# Altium integrated library LIB2022 - Switches.IntLib: 5 symbols
Pins are listed as number, name and electrical type; pins without a type are passive.

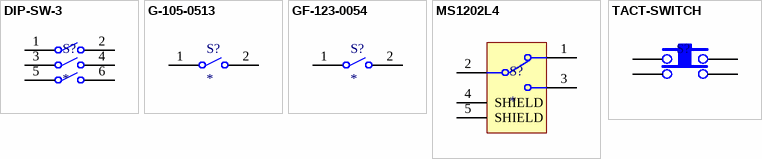
[diagram p0: symbols DIP-SW-3 to TACT-SWITCH]

## DIP-SW-3
designator S?
footprint DIP-SW-3
pins: 1, 2, 3, 4, 5, 6

## G-105-0513
designator S?
Digikey_PN: SW100-ND
footprint G-105-0513
pins: 1, 2

## GF-123-0054
designator S?
SWITCH SLIDE SPST 8.5A 125V; Digikey_PN: CWI333-ND
footprint GF-123-0054
pins: 1, 2

## MS1202L4
designator S?
SWITCH SLIDE SPDT 0.2A 30V; Digikey_PN: 2449-MS1202L4-ND
footprint MS1202L4
pins: 1, 2, 3, 4 SHIELD, 5 SHIELD

## TACT-SWITCH
designator S?
footprint TACT-SWITCH
pins: 1, 2, 3, 4